# Altium footprint library PCA9685PW_112.PCBLIB: 1 footprints
Each footprint in its own frame and in the unit in brackets; x right, y up, seen from the top. Pads: shape width x height; smd on the part's side, far side on the other; paste and mask are expansions set on the pad; w line width, h text height; cw(c..) or ccw(c..) is an arc to the next point about the centre after c.
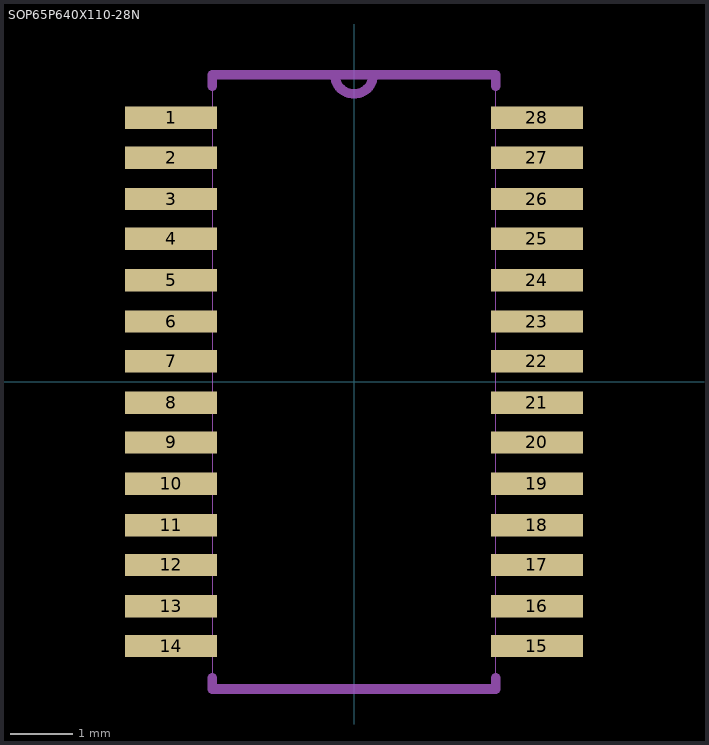
[diagram p0: the footprint, top view; thin cyan lines are the x and y axes]

## SOP65P640X110-28N [mil]
pads (28):
  rect 58x14 smd: 1(-115,166) 2(-115,141) 3(-115,115) 4(-115,90) 5(-115,64) 6(-115,38) 7(-115,13) 8(-115,-13) 9(-115,-38) 10(-115,-64) 11(-115,-90) 12(-115,-115) 13(-115,-141) 14(-115,-166) 15(115,-166) 16(115,-141) 17(115,-115) 18(115,-90) 19(115,-64) 20(115,-38) 21(115,-13) 22(115,13) 23(115,38) 24(115,64) 25(115,90) 26(115,115) 27(115,141) 28(115,166)
tDocu:
  lines w0: -12,193 12,193 ; -12,193 -89,193 -89,-193 89,-193 89,193 12,193 ; -12,193 ccw(c0,193) 12,193 ; -130,-172 -130,-160 -89,-160 -89,-172 -130,-172 ; -130,-147 -130,-135 -89,-135 -89,-147 -130,-147 ; -130,-121 -130,-109 -89,-109 -89,-121 -130,-121 ; -130,-96 -130,-84 -89,-84 -89,-96 -130,-96 ; -130,-70 -130,-58 -89,-58 -89,-70 -130,-70 ; -130,-44 -130,-32 -89,-32 -89,-44 -130,-44 ; -130,-19 -130,-7 -89,-7 -89,-19 -130,-19 ; -130,7 -130,19 -89,19 -89,7 -130,7 ; -130,32 -130,44 -89,44 -89,32 -130,32 ; -130,58 -130,70 -89,70 -89,58 -130,58 ; -130,84 -130,96 -89,96 -89,84 -130,84 ; -130,109 -130,121 -89,121 -89,109 -130,109 ; -130,135 -130,147 -89,147 -89,135 -130,135 ; -130,160 -130,172 -89,172 -89,160 -130,160 ; 89,-172 89,-160 130,-160 130,-172 89,-172 ; 89,-147 89,-135 130,-135 130,-147 89,-147 ; 89,-121 89,-109 130,-109 130,-121 89,-121 ; 89,-96 89,-84 130,-84 130,-96 89,-96 ; 89,-70 89,-58 130,-58 130,-70 89,-70 ; 89,-44 89,-32 130,-32 130,-44 89,-44 ; 89,-19 89,-7 130,-7 130,-19 89,-19 ; 89,7 89,19 130,19 130,7 89,7 ; 89,32 89,44 130,44 130,32 89,32 ; 89,58 89,70 130,70 130,58 89,58 ; 89,84 89,96 130,96 130,84 89,84 ; 89,109 89,121 130,121 130,109 89,109 ; 89,135 89,147 130,147 130,135 89,135 ; 89,160 89,172 130,172 130,160 89,160
tPlace:
  lines w6: -89,-186 -89,-193 89,-193 89,-186 ; -89,186 -89,193 -12,193 ; 89,186 89,193 12,193 ; -12,193 12,193 ; -12,193 ccw(c0,193) 12,193